# Altium footprint library LM7805.PcbLib: 1 footprints
Each footprint in its own frame and in the unit in brackets; x right, y up, seen from the top. Pads: shape width x height; smd on the part's side, far side on the other; paste and mask are expansions set on the pad; w line width, h text height; cw(c..) or ccw(c..) is an arc to the next point about the centre after c.
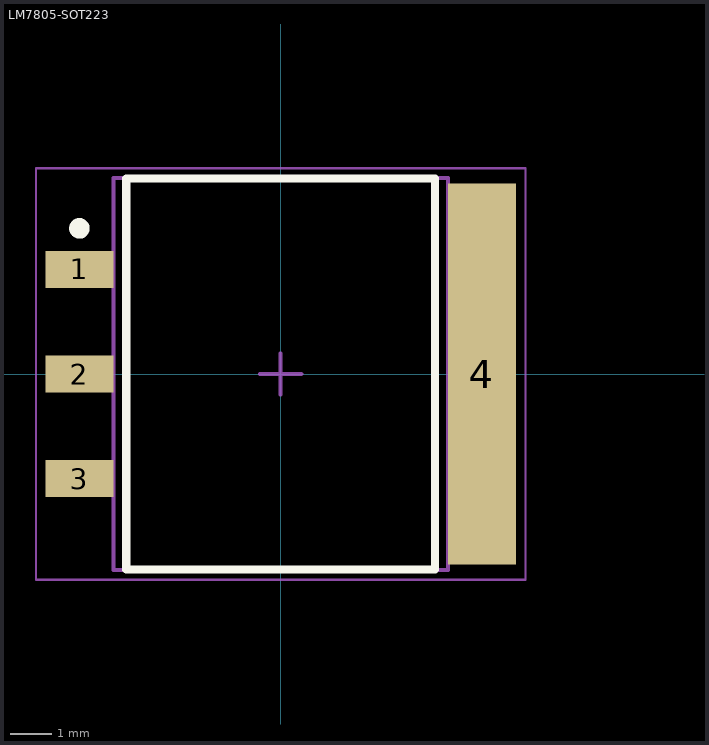
[diagram p0: the footprint, top view; thin cyan lines are the x and y axes]

## LM7805-SOT223 [mm] "SOT223, 4-Leads, Body 9.40x10.54mm (avg), Pitch 2.54mm, IPC Medium Density"
height 2.03
pads (4):
  rect 1.65x0.9 smd: 1(-4.89,2.54) 2(-4.89,0) 3(-4.89,-2.54)
  rect 1.65x9.25 smd: 4(4.89,0)
Top Overlay:
  circle w0.25: c-4.89,3.54 r0.125
  lines w0.2: -3.75,-4.75 3.75,-4.75 3.75,4.75 -3.75,4.75 -3.75,-4.75
Mechanical 13:
  lines w0.1: -4.065,-4.76 4.065,-4.76 4.065,4.76 -4.065,4.76 -4.065,-4.76
Mechanical 15:
  lines w0.05: -5.95,-5 5.95,-5 5.95,5 -5.95,5 -5.95,-5
  lines w0.1: -0.5,0 0.5,0 ; 0,-0.5 0,0.5
3D body "LM7805-SOT223.step": height 2.03, standoff 0, extent -5.27,-4.76 5.27,4.76